# Altium footprint library interface.PcbLib: 17 footprints (part 1 of 2)
Each footprint in its own frame and in the unit in brackets; x right, y up, seen from the top. Pads: shape width x height; smd on the part's side, far side on the other; paste and mask are expansions set on the pad; w line width, h text height; cw(c..) or ccw(c..) is an arc to the next point about the centre after c.
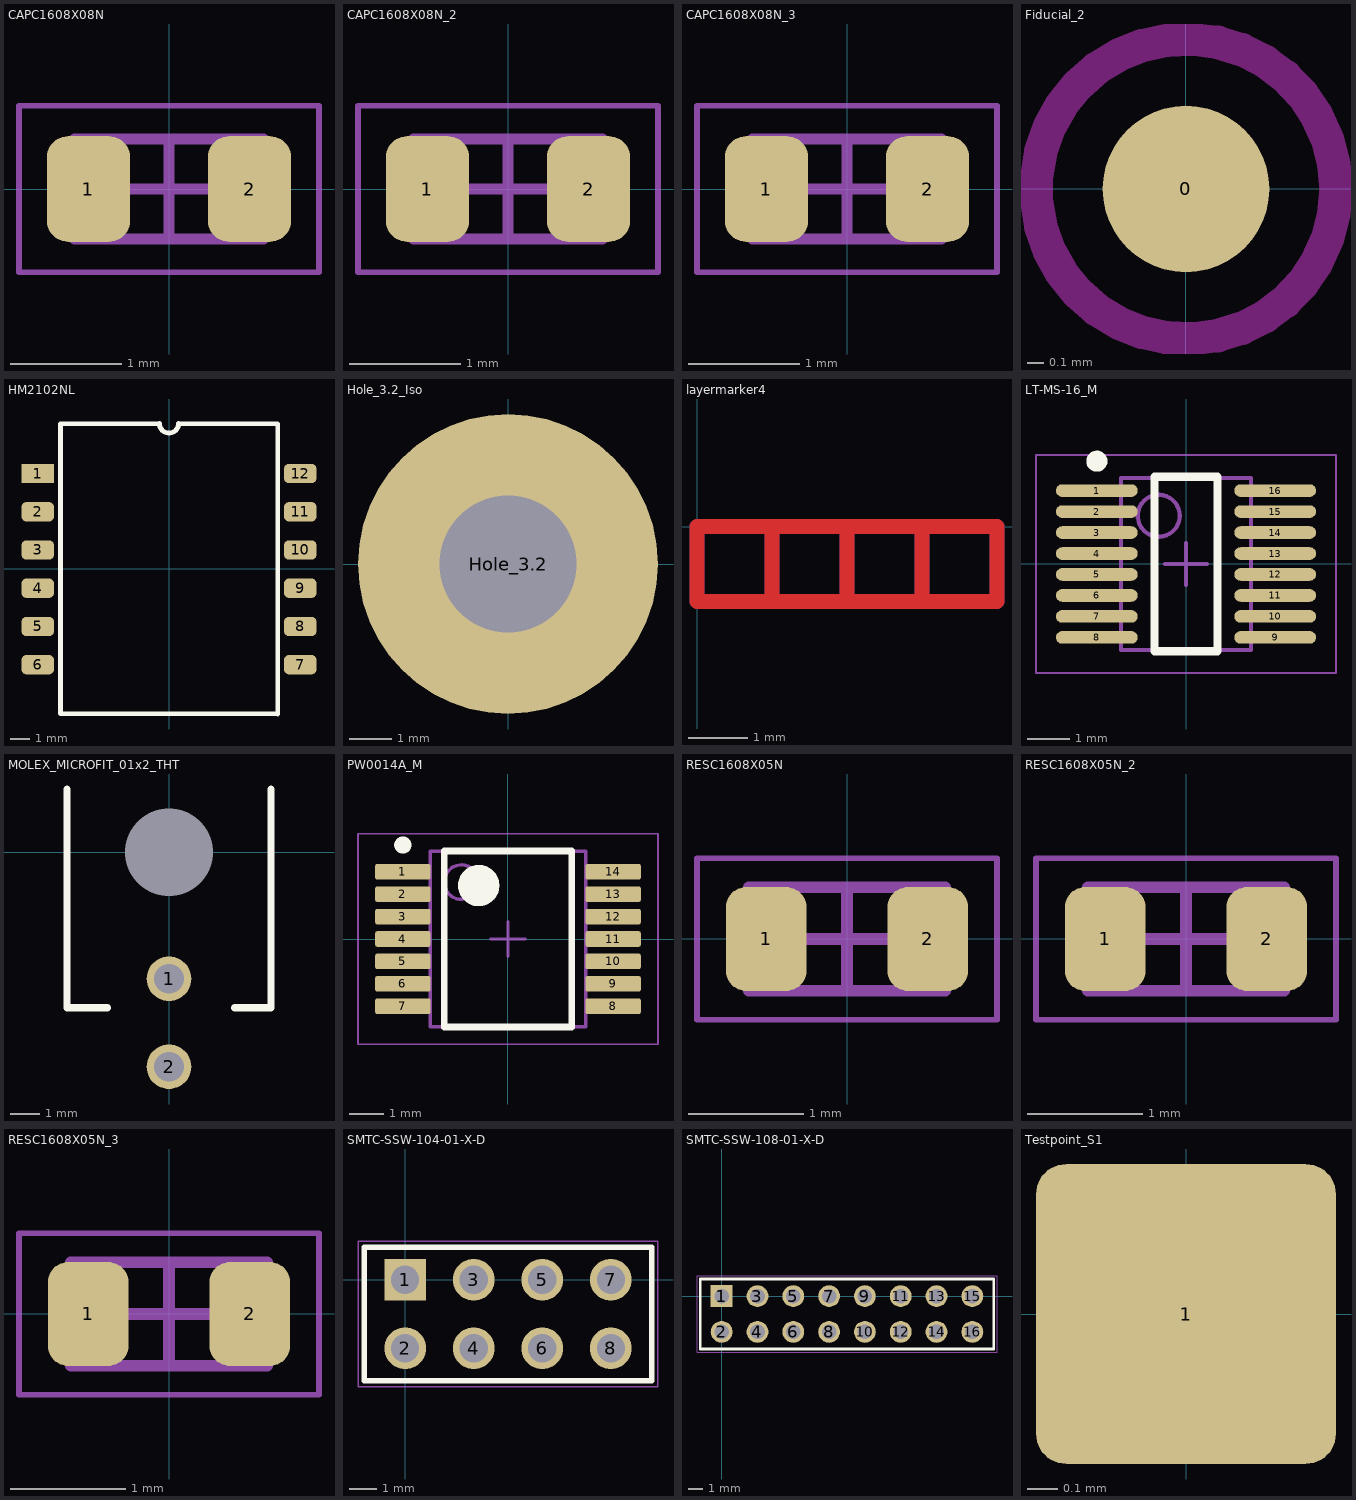
[diagram p0: the footprints below, top view; thin cyan lines are the x and y axes]

## CAPC1608X08N [mm] "Chip Capacitor, 2-Leads, Body 1,60x0,80mm, IPC Medium Density"
height 0.8
pads (2):
  rrect50% 0.75x0.95 smd: 1(-0.725,0) 2(0.725,0)
Mechanical 13:
  lines w0.1: -0.85,-0.45 -0.85,0.45 0.85,0.45 0.85,-0.45 -0.85,-0.45
Mechanical 15:
  lines w0.05: -1.35,-0.75 -1.35,0.75 1.35,0.75 1.35,-0.75 -1.35,-0.75
  lines w0.1: -0.45,0 0.45,0 ; 0,-0.45 0,0.45
3D body "CAPC1608X08N.step": height 0.8, standoff 0, extent -0.85,-0.45 0.85,0.45

## CAPC1608X08N_2 [mm]
pads (2):
  rrect50% 0.75x0.95 smd: 1(-0.725,0) 2(0.725,0)
Mechanical 13:
  lines w0.1: -0.85,-0.45 -0.85,0.45 0.85,0.45 0.85,-0.45 -0.85,-0.45
Mechanical 15:
  lines w0.05: -1.35,-0.75 -1.35,0.75 1.35,0.75 1.35,-0.75 -1.35,-0.75
  lines w0.1: -0.45,0 0.45,0 ; 0,-0.45 0,0.45
3D body "CAPC1608X08N.step": height 0.8, standoff 0, extent -0.85,-0.45 0.85,0.45

## CAPC1608X08N_3 [mm]
pads (2):
  rrect50% 0.75x0.95 smd: 1(-0.725,0) 2(0.725,0)
Mechanical 13:
  lines w0.1: -0.85,-0.45 0.85,-0.45 0.85,0.45 -0.85,0.45 -0.85,-0.45
Mechanical 15:
  lines w0.05: -1.35,-0.75 1.35,-0.75 1.35,0.75 -1.35,0.75 -1.35,-0.75
  lines w0.1: -0.45,0 0.45,0 ; 0,-0.45 0,0.45
3D body "CAPC1608X08N.step": height 0.8, standoff 0, extent -0.85,-0.45 0.85,0.45

## Fiducial_2 [mm] "Fiducial Round 1mm"
height 8.763
pads (1):
  round 1 smd paste-0.5 mask+0.5: 0(0,0)
Top Layer keep-out:
  circle w0.2: c0,0 r0.9

## HM2102NL [mil]
height 197
pads (12):
  rect 67.5x40 smd: 1(-271.65,196.85)
  rrect50% 67.5x40 smd: 2(-271.65,117.85) 3(-271.65,38.85) 4(-271.65,-40.15) 5(-271.65,-119.15) 6(-271.65,-198.15) 7(270.85,-198.15) 8(270.85,-119.15) 9(270.85,-40.15) 10(270.85,38.85) 11(270.85,117.85) 12(270.85,196.85)
Top Overlay:
  lines w10: 224.41,-300.04 -224.41,-299.21 -224.41,299.21 -20.15,300.13 ccw(c-0.4,300.13) 19.35,300.13 224.41,299.21 224.41,-299.21
3D body: height 196.85, standoff 9.84, extent -224.41,-299.21 224.41,299.21

## Hole_3.2_Iso [mm]
pads (1):
  round 7 hole 3.2: Hole_3.2(0,0)

## layermarker4 [mm] "Marker for a 4 layerstack"
Top Layer:
  lines w0.254: 1.27,-1.27 2.54,-1.27 ; 1.27,-1.27 0,-1.27 0,0 1.27,0 ; 1.27,-1.27 1.27,0 ; 1.27,0 2.54,0 ; 2.54,-1.27 3.81,-1.27 ; 2.54,-1.27 2.54,0 ; 2.54,0 3.81,0 ; 3.81,-1.27 5.08,-1.27 5.08,0 3.81,0 ; 3.81,-1.27 3.81,0
  text "1" at 0.559,-0.864 h0.51
Mid-Layer 1:
  lines w0.254: 1.27,-1.27 1.27,0 ; 1.27,-1.27 0,-1.27 0,0 1.27,0 ; 1.27,-1.27 2.54,-1.27 ; 1.27,0 2.54,0 ; 2.54,-1.27 3.81,-1.27 ; 2.54,-1.27 2.54,0 ; 2.54,0 3.81,0 ; 3.81,-1.27 3.81,0 ; 3.81,-1.27 5.08,-1.27 5.08,0 3.81,0
  text "2" at 1.727,-0.864 h0.51
Mid-Layer 2:
  lines w0.254: 1.27,-1.27 1.27,0 ; 1.27,-1.27 2.54,-1.27 ; 1.27,-1.27 0,-1.27 0,0 1.27,0 ; 1.27,0 2.54,0 ; 2.54,-1.27 3.81,-1.27 ; 2.54,-1.27 2.54,0 ; 2.54,0 3.81,0 ; 3.81,-1.27 3.81,0 ; 3.81,-1.27 5.08,-1.27 5.08,0 3.81,0
  text "3" at 2.997,-0.864 h0.51
Bottom Layer:
  lines w0.254: 1.27,-1.27 1.27,0 ; 1.27,-1.27 2.54,-1.27 ; 1.27,-1.27 0,-1.27 0,0 1.27,0 ; 1.27,0 2.54,0 ; 2.54,-1.27 3.81,-1.27 ; 2.54,-1.27 2.54,0 ; 2.54,0 3.81,0 ; 3.81,-1.27 3.81,0 ; 3.81,-1.27 5.08,-1.27 5.08,0 3.81,0
  text "4" at 4.597,-0.864 h0.51
Top Solder:
  region: 0,0 5.08,0 5.08,-1.27 0,-1.27
Bottom Solder:
  region: 0,0 5.08,0 5.08,-1.27 0,-1.27

## LT-MS-16_M [mm] "SOP, 16-Leads, Body 4.04x3.00mm, Pitch 0.50mm, IPC Low Density"
height 1.1
pads (16):
  oval 1.95x0.3 smd: 1(-2.125,1.75) 2(-2.125,1.25) 3(-2.125,0.75) 4(-2.125,0.25) 5(-2.125,-0.25) 6(-2.125,-0.75) 7(-2.125,-1.25) 8(-2.125,-1.75) 9(2.125,-1.75) 10(2.125,-1.25) 11(2.125,-0.75) 12(2.125,-0.25) 13(2.125,0.25) 14(2.125,0.75) 15(2.125,1.25) 16(2.125,1.75)
Top Overlay:
  circle w0.25: c-2.125,2.45 r0.125
  lines w0.2: -0.75,-2.075 -0.75,2.075 0.75,2.075 0.75,-2.075 -0.75,-2.075
Mechanical 13:
  circle w0.1: c-0.65,1.15 r0.5
  lines w0.1: -1.55,-2.05 -1.55,2.05 1.55,2.05 1.55,-2.05 -1.55,-2.05
Mechanical 15:
  lines w0.05: -3.575,-2.6 -3.575,2.6 3.575,2.6 3.575,-2.6 -3.575,-2.6
  lines w0.1: -0.5,0 0.5,0 ; 0,-0.5 0,0.5
3D body: height 1.1, standoff 0.05, extent -1.55,-2.05 1.55,2.05

## MOLEX_MICROFIT_01x2_THT [mil] "Micro-Fit 3.0 Right Angle Header, 3.00mm Pitch, Dual Row, 2 Circuits, with Snap-in Plastic Peg PCB Lock, Tin, Glow Wire Capable, Black, 43045-0200"
height 345
pads (3):
  round 60 hole 40: 1(0,-170) 2(0,-287.99)
  round 39.37 hole 117.99 unplated paste+0 mask+4: ""(0,0)
Top Overlay:
  lines w10: -137,85 -137,-209.02 -83,-209.02 ; 88,-209.02 137,-209.02 137,85
3D body "430450200.stp": height 345.35, standoff -125.12, extent -140.75,-300.95 140.75,180.94
3D body: height 10, standoff 0, extent 0,0 0,0

## PW0014A_M [mm] "SOP, 14-Leads, Body 5.1x4.5mm, Pitch 0.65mm, IPC Low Density"
height 1.2
pads (14):
  rrect22% 1.6x0.45 smd: 1(-3.05,1.95) 2(-3.05,1.3) 3(-3.05,0.65) 4(-3.05,0) 5(-3.05,-0.65) 6(-3.05,-1.3) 7(-3.05,-1.95) 8(3.05,-1.95) 9(3.05,-1.3) 10(3.05,-0.65) 11(3.05,0) 12(3.05,0.65) 13(3.05,1.3) 14(3.05,1.95)
Top Overlay:
  circle w0.6: c-0.85,1.55 r0.3
  circle w0.25: c-3.05,2.725 r0.125
  lines w0.2: -1.85,-2.55 1.85,-2.55 1.85,2.55 -1.85,2.55 -1.85,-2.55
Mechanical 1:
  text ".Designator" at -1.524,-0.508 h1.02
Mechanical 13:
  circle w0.1: c-1.35,1.65 r0.5
  lines w0.1: -2.25,-2.55 2.25,-2.55 2.25,2.55 -2.25,2.55 -2.25,-2.55
Mechanical 15:
  lines w0.05: -4.35,-3.05 4.35,-3.05 4.35,3.05 -4.35,3.05 -4.35,-3.05
  lines w0.1: -0.5,0 0.5,0 ; 0,-0.5 0,0.5
3D body "PW0014AakaMTC14.stp": height 1, standoff 0, extent -3.21,-2.5 3.21,2.5

## RESC1608X05N [mm] "Chip Resistor, 2-Leads, Body 1,60x0,80mm, IPC Medium Density"
height 0.45
pads (2):
  rrect50% 0.7x0.9 smd: 1(-0.7,0) 2(0.7,0)
Mechanical 13:
  lines w0.1: -0.85,-0.45 0.85,-0.45 0.85,0.45 -0.85,0.45 -0.85,-0.45
Mechanical 15:
  lines w0.05: -1.3,-0.7 1.3,-0.7 1.3,0.7 -1.3,0.7 -1.3,-0.7
  lines w0.1: -0.45,0 0.45,0 ; 0,-0.45 0,0.45
3D body "RESC1608X05N.step": height 0.45, standoff 0, extent -0.85,-0.45 0.85,0.45

## RESC1608X05N_2 [mm]
pads (2):
  rrect50% 0.7x0.9 smd: 1(-0.7,0) 2(0.7,0)
Mechanical 13:
  lines w0.1: -0.85,-0.45 0.85,-0.45 0.85,0.45 -0.85,0.45 -0.85,-0.45
Mechanical 15:
  lines w0.05: -1.3,-0.7 1.3,-0.7 1.3,0.7 -1.3,0.7 -1.3,-0.7
  lines w0.1: -0.45,0 0.45,0 ; 0,-0.45 0,0.45
3D body "RESC1608X05N.step": height 0.45, standoff 0, extent -0.85,-0.45 0.85,0.45

## RESC1608X05N_3 [mm]
pads (2):
  rrect50% 0.7x0.9 smd: 1(-0.7,0) 2(0.7,0)
Mechanical 13:
  lines w0.1: -0.85,-0.45 -0.85,0.45 0.85,0.45 0.85,-0.45 -0.85,-0.45
Mechanical 15:
  lines w0.05: -1.3,-0.7 -1.3,0.7 1.3,0.7 1.3,-0.7 -1.3,-0.7
  lines w0.1: -0.45,0 0.45,0 ; 0,-0.45 0,0.45
3D body "RESC1608X05N.step": height 0.45, standoff 0, extent -0.85,-0.45 0.85,0.45

## SMTC-SSW-104-01-X-D [mm] "SQ Post Socket, 2x4 Pins, Vertical, 2.54mm Pitch, Female"
height 8.51
pads (8):
  rect 1.55x1.55 hole 1.04: 1(0,0)
  round 1.55 hole 1.04: 2(0,-2.54) 3(2.54,0) 4(2.54,-2.54) 5(5.08,0) 6(5.08,-2.54) 7(7.62,0) 8(7.62,-2.54)
Top Overlay:
  lines w0.2: -1.525,-3.745 9.145,-3.745 9.145,1.205 -1.525,1.205 -1.525,-3.745
Mechanical 13:
  lines w0.1: -1.525,-3.745 9.145,-3.745 9.145,1.205 -1.525,1.205 -1.525,-3.745
Mechanical 15:
  lines w0.05: -1.75,-3.97 9.37,-3.97 9.37,1.43 -1.75,1.43 -1.75,-3.97
3D body "SSW-104-01-X-D.step": height 8.51, standoff -2.64, extent -1.524,-3.746 9.144,1.207

## SMTC-SSW-108-01-X-D [mm] "SQ Post Socket, 2x8 Pins, Vertical, 2.54mm Pitch, Female"
height 8.51
pads (16):
  rect 1.55x1.55 hole 1.04: 1(0,0)
  round 1.55 hole 1.04: 2(0,-2.54) 3(2.54,0) 4(2.54,-2.54) 5(5.08,0) 6(5.08,-2.54) 7(7.62,0) 8(7.62,-2.54) 9(10.16,0) 10(10.16,-2.54) 11(12.7,0) 12(12.7,-2.54) 13(15.24,0) 14(15.24,-2.54) 15(17.78,0) 16(17.78,-2.54)
Top Overlay:
  lines w0.2: -1.525,-3.745 -1.525,1.205 19.305,1.205 19.305,-3.745 -1.525,-3.745
Mechanical 13:
  lines w0.1: -1.525,-3.745 -1.525,1.205 19.305,1.205 19.305,-3.745 -1.525,-3.745
Mechanical 15:
  lines w0.05: -1.75,-3.97 19.53,-3.97 19.53,1.43 -1.75,1.43 -1.75,-3.97
3D body "SSW-108-01-X-D.step": height 8.51, standoff -2.64, extent -1.524,-3.746 19.304,1.207

## Testpoint_S1 [mm] "Testpunkt, quardratisch 1mm"
height 8.763
pads (1):
  rrect20% 1x1 smd paste-0.5: 1(0,0)